# Altium footprint library Footprints.PcbLib: 4 footprints
Each footprint in its own frame and in the unit in brackets; x right, y up, seen from the top. Pads: shape width x height; smd on the part's side, far side on the other; paste and mask are expansions set on the pad; w line width, h text height; cw(c..) or ccw(c..) is an arc to the next point about the centre after c.
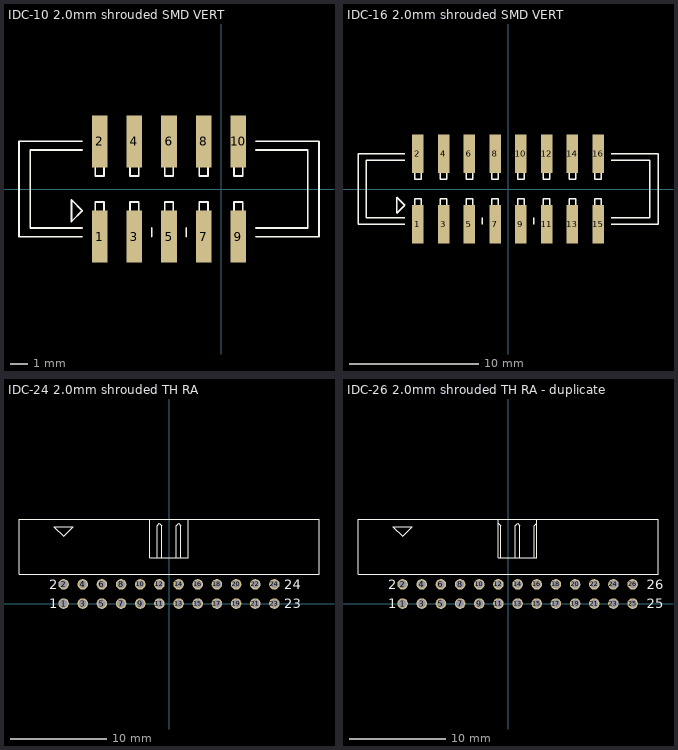
[diagram p0: the footprints below, top view; thin cyan lines are the x and y axes]

## IDC-10 2.0mm shrouded SMD VERT [mm] "IDC-10 2.0mm shrouded SMD VERT"
height 6.2
pads (10):
  rect 0.9x3 smd: 1(-7,-2.75) 2(-7,2.75) 3(-5,-2.75) 4(-5,2.75) 5(-3,-2.75) 6(-3,2.75) 7(-1,-2.75) 8(-1,2.75) 9(1,-2.75) 10(1,2.75)
Top Overlay:
  lines w0.1: -8,-2.75 -11.65,-2.75 -11.65,2.75 -8,2.75 ; -8,-2.25 -11,-2.25 -11,2.25 -8,2.25 ; -7.25,-1.25 -7.25,-0.75 -6.75,-0.75 -6.75,-1.25 ; -7.25,1.25 -7.25,0.75 -6.75,0.75 -6.75,1.25 ; -5.25,-1.25 -5.25,-0.75 -4.75,-0.75 -4.75,-1.25 ; -5.25,1.25 -5.25,0.75 -4.75,0.75 -4.75,1.25 ; -4,-2.75 -4,-2.25 ; -3.25,-1.25 -3.25,-0.75 -2.75,-0.75 -2.75,-1.25 ; -3.25,1.25 -3.25,0.75 -2.75,0.75 -2.75,1.25 ; -2,-2.75 -2,-2.25 ; -1.25,-1.25 -1.25,-0.75 -0.75,-0.75 -0.75,-1.25 ; -1.25,1.25 -1.25,0.75 -0.75,0.75 -0.75,1.25 ; 0.75,-1.25 0.75,-0.75 1.25,-0.75 1.25,-1.25 ; 0.75,1.25 0.75,0.75 1.25,0.75 1.25,1.25 ; 2,-2.75 5.65,-2.75 5.65,2.75 2,2.75 ; 2,-2.25 5,-2.25 5,2.25 2,2.25 ; -8.625,-1.875 -8.625,-1.875 ; -8.625,-1.875 -8.625,-0.625 -8,-1.25 -8.625,-1.875 ; -8.625,-1.875 -8.625,-1.875

## IDC-16 2.0mm shrouded SMD VERT [mm] "IDC-16 2.0mm shrouded SMD VERT"
height 6.2
pads (16):
  rect 0.9x3 smd: 1(-7,-2.75) 2(-7,2.75) 3(-5,-2.75) 4(-5,2.75) 5(-3,-2.75) 6(-3,2.75) 7(-1,-2.75) 8(-1,2.75) 9(1,-2.75) 10(1,2.75) 11(3,-2.75) 12(3,2.75) 13(5,-2.75) 14(5,2.75) 15(7,-2.75) 16(7,2.75)
Top Overlay:
  lines w0.1: -8,-2.75 -11.65,-2.75 -11.65,2.75 -8,2.75 ; -8,-2.25 -11,-2.25 -11,2.25 -8,2.25 ; -7.25,-1.25 -7.25,-0.75 -6.75,-0.75 -6.75,-1.25 ; -7.25,1.25 -7.25,0.75 -6.75,0.75 -6.75,1.25 ; -5.25,-1.25 -5.25,-0.75 -4.75,-0.75 -4.75,-1.25 ; -5.25,1.25 -5.25,0.75 -4.75,0.75 -4.75,1.25 ; -3.25,-1.25 -3.25,-0.75 -2.75,-0.75 -2.75,-1.25 ; -3.25,1.25 -3.25,0.75 -2.75,0.75 -2.75,1.25 ; -2,-2.75 -2,-2.25 ; -1.25,-1.25 -1.25,-0.75 -0.75,-0.75 -0.75,-1.25 ; -1.25,1.25 -1.25,0.75 -0.75,0.75 -0.75,1.25 ; 0.75,-1.25 0.75,-0.75 1.25,-0.75 1.25,-1.25 ; 0.75,1.25 0.75,0.75 1.25,0.75 1.25,1.25 ; 2,-2.75 2,-2.25 ; 2.75,-1.25 2.75,-0.75 3.25,-0.75 3.25,-1.25 ; 2.75,1.25 2.75,0.75 3.25,0.75 3.25,1.25 ; 4.75,-1.25 4.75,-0.75 5.25,-0.75 5.25,-1.25 ; 4.75,1.25 4.75,0.75 5.25,0.75 5.25,1.25 ; 6.75,-1.25 6.75,-0.75 7.25,-0.75 7.25,-1.25 ; 6.75,1.25 6.75,0.75 7.25,0.75 7.25,1.25 ; 8,-2.75 11.65,-2.75 11.65,2.75 8,2.75 ; 8,-2.25 11,-2.25 11,2.25 8,2.25 ; -8.625,-1.875 -8.625,-1.875 ; -8.625,-1.875 -8,-1.25 -8.625,-0.625 -8.625,-1.875 ; -8.625,-1.875 -8.625,-1.875

## IDC-24 2.0mm shrouded TH RA [mm] "IDC-24 2.0mm shrouded TH RA"
height 5.5
pads (24):
  round 1.1 hole 0.8: 1(-11,0) 2(-11,2) 3(-9,0) 4(-9,2) 5(-7,0) 6(-7,2) 7(-5,0) 8(-5,2) 9(-3,0) 10(-3,2) 11(-1,0) 12(-1,2) 13(1,0) 14(1,2) 15(3,0) 16(3,2) 17(5,0) 18(5,2) 19(7,0) 20(7,2) 21(9,0) 22(9,2) 23(11,0) 24(11,2)
Top Overlay:
  lines w0.05: -2,8.8 -2,4.8 0,4.8 2,4.8 2,8.8 ; -1.25,4.8 -1.25,8.125 -1,8.375 -0.75,8.125 -0.75,4.8 ; 0.75,4.8 0.75,8.125 1,8.375 1.25,8.125 1.25,4.8 ; -15.65,3.05 -15.65,8.8 15.65,8.8 15.65,3.05 -15.65,3.05 ; -12,8 -11,7 -10,8 -12,8
  text "1" at -12.5,-0.5 h1
  text "2" at -12.5,1.5 h1
  text "23" at 12,-0.5 h1
  text "24" at 12,1.5 h1

## IDC-26 2.0mm shrouded TH RA - duplicate [mm] "IDC-26 2.0mm shrouded TH RA"
height 5.5
pads (26):
  round 1.1 hole 0.8: 1(-11,0) 2(-11,2) 3(-9,0) 4(-9,2) 5(-7,0) 6(-7,2) 7(-5,0) 8(-5,2) 9(-3,0) 10(-3,2) 11(-1,0) 12(-1,2) 13(1,0) 14(1,2) 15(3,0) 16(3,2) 17(5,0) 18(5,2) 19(7,0) 20(7,2) 21(9,0) 22(9,2) 23(11,0) 24(11,2) 25(13,0) 26(13,2)
Top Overlay:
  lines w0.05: -1,8.375 -0.75,8.125 -0.75,4.8 ; -1,8.8 -1,4.8 1,4.8 3,4.8 3,8.8 ; 0.75,4.8 0.75,8.125 1,8.375 1.25,8.125 1.25,4.8 ; 2.75,4.8 2.75,8.125 3,8.375 ; -15.65,3.05 15.65,3.05 15.65,8.8 -15.65,8.8 -15.65,3.05 ; -12,8 -10,8 -11,7 -12,8
  text "26" at 14.5,1.5 h1
  text "25" at 14.5,-0.5 h1
  text "2" at -12.5,1.5 h1
  text "1" at -12.5,-0.5 h1